# Altium footprint library APP_1_PCBLib.PcbLib: 1 footprints
Each footprint in its own frame and in the unit in brackets; x right, y up, seen from the top. Pads: shape width x height; smd on the part's side, far side on the other; paste and mask are expansions set on the pad; w line width, h text height; cw(c..) or ccw(c..) is an arc to the next point about the centre after c.
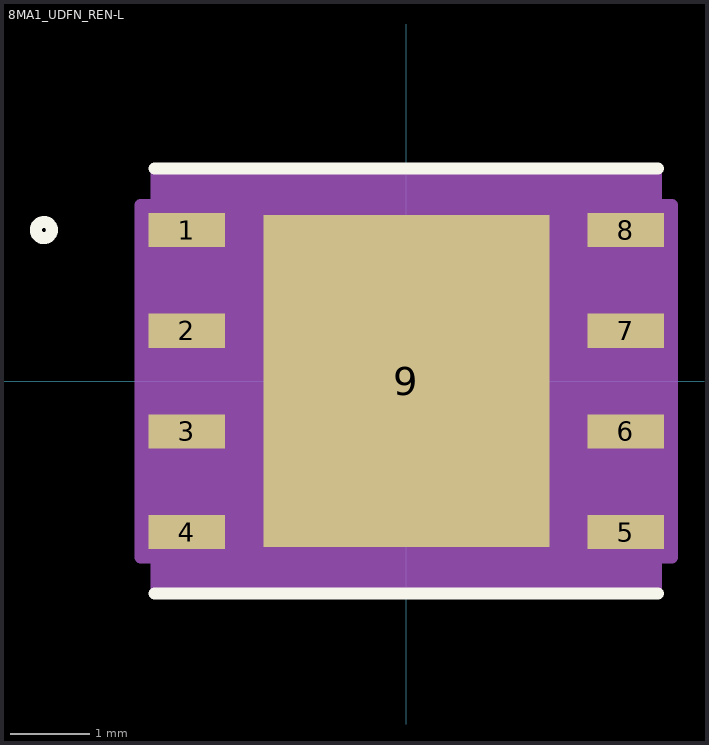
[diagram p0: the footprint, top view; thin cyan lines are the x and y axes]

## 8MA1_UDFN_REN-L [mil]
pads (9):
  rect 38x17 smd paste+0 mask+0: 1(-109,75) 2(-109,25) 3(-109,-25) 4(-109,-75) 5(109,-75) 6(109,-25) 7(109,25) 8(109,75)
  rect 142x165 smd paste+0 mask+0: 9(0,0)
Top Overlay:
  circle w6: c-180,75 r4
  lines w6: -125,-105.5 125,-105.5 ; -125,105.5 125,105.5
Top Paste:
  region: 67.06,-31.44 3.94,-31.44 3.94,-78.56 67.06,-78.56
  region: 67.06,23.56 3.94,23.56 3.94,-23.56 67.06,-23.56
  region: 67.06,78.56 3.94,78.56 3.94,31.44 67.06,31.44
  region: -3.94,-31.44 -67.06,-31.44 -67.06,-78.56 -3.94,-78.56
  region: -3.94,23.56 -67.06,23.56 -67.06,-23.56 -3.94,-23.56
  region: -3.94,78.56 -67.06,78.56 -67.06,31.44 -3.94,31.44
Mechanical 13:
  circle w0: c-90,75 r3
  lines w0: -12,100.5 ccw(c0,100.5) 12,100.5
  lines w1: -120,-100.5 -120,100.5 120,100.5 120,-100.5 -120,-100.5
Mechanical 15:
  region: -124,-87.5 -132,-87.5 -132,87.5 -124,87.5 -124,104.5 124,104.5 124,87.5 132,87.5 132,-87.5 124,-87.5 124,-104.5 -124,-104.5
  lines w6: -132,-87.5 -124,-87.5 -124,-104.5 124,-104.5 124,-87.5 132,-87.5 132,87.5 124,87.5 124,104.5 -124,104.5 -124,87.5 -132,87.5 -132,-87.5
3D body "8MA1_UDFN_REN.step": height 24.09, standoff 0, extent -120,-100.51 120,100.51